# Altium schematic symbol library 2022_AESK_UAV.SchLib: 1 symbol
Pins are listed as number, name and electrical type; pins without a type are passive.

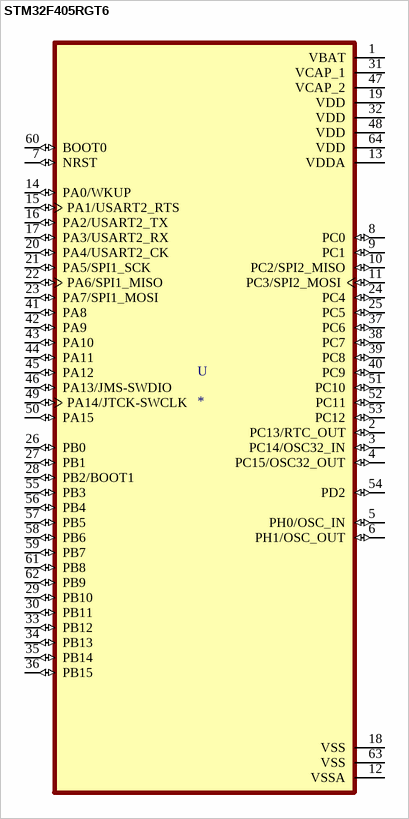
[diagram p0: symbol STM32F405RGT6]

## STM32F405RGT6
designator U
ARMÂ® CortexÂ®-M4 STM32F4 Microcontroller IC 32-Bit 168MHz 1MB _1M x 8_ FLASH 64-LQFP _10x10_; MF: STMicroelectronics; MP: STM32F405RGT6; Package: LQFP-64 STMicroelectronics; Digi-Key_Purchase_URL: https://www.digikey.com/product-detail/en/stmicroelectronics/STM32F405RGT6/497-11767-ND/2754208?utm_source=snapeda&utm_medium=aggregator&utm_campaign=symbol; Value: *; SnapEDA_Link: https://www.snapeda.com/parts/STM32F405RGT6/STMicroelectronics/view-part/105502/?ref=snap; Digi-Key_Part_Number: 497-11767-ND
footprint QFP50P1200X1200X160-64N
pins: 1 VBAT (power), 2 PC13/RTC_OUT (io), 3 PC14/OSC32_IN (io), 4 PC15/OSC32_OUT (io), 5 PH0/OSC_IN (io), 6 PH1/OSC_OUT (io), 7 NRST (io), 8 PC0 (io), 9 PC1 (io), 10 PC2/SPI2_MISO (io), 11 PC3/SPI2_MOSI (io), 12 VSSA (power), 13 VDDA (power), 14 PA0/WKUP (io), 15 PA1/USART2_RTS (io), 16 PA2/USART2_TX (io), 17 PA3/USART2_RX (io), 18 VSS (power), 19 VDD (power), 20 PA4/USART2_CK (io), 21 PA5/SPI1_SCK (io), 22 PA6/SPI1_MISO (io), 23 PA7/SPI1_MOSI (io), 24 PC4 (io), 25 PC5 (io), 26 PB0 (io), 27 PB1 (io), 28 PB2/BOOT1 (io), 29 PB10 (io), 30 PB11 (io), 31 VCAP_1 (power), 32 VDD (power), 33 PB12 (io), 34 PB13 (io), 35 PB14 (io), 36 PB15 (io), 37 PC6 (io), 38 PC7 (io), 39 PC8 (io), 40 PC9 (io), 41 PA8 (io), 42 PA9 (io), 43 PA10 (io), 44 PA11 (io), 45 PA12 (io), 46 PA13/JMS-SWDIO (io), 47 VCAP_2 (power), 48 VDD (power), 49 PA14/JTCK-SWCLK (io), 50 PA15 (io), 51 PC10 (io), 52 PC11 (io), 53 PC12 (io), 54 PD2 (io), 55 PB3 (io), 56 PB4 (io), 57 PB5 (io), 58 PB6 (io), 59 PB7 (io), 60 BOOT0 (io), 61 PB8 (io), 62 PB9 (io), 63 VSS (power), 64 VDD (power)